# EAGLE library part 10PINJUKE (library Jukebox)
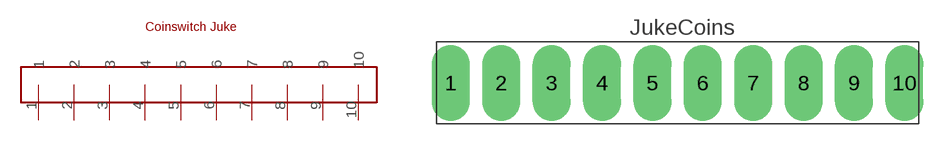
[diagram p2: symbol with the pads of 10PINJUKE; footprint 10PINJUKE]

Designator prefix -

## 10PINJUKE  [10PINJUKE]
1  1
2  2
3  3
4  4
5  5
6  6
7  7
8  8
9  9
10  10

## Footprint 10PINJUKE (pad centres in mm)
drill 1 pad 3 long: 1 -18,0; 2 -14,0; 3 -10,0; 4 -6,0; 5 -2,0; 6 2,0; 7 6,0; 8 10,0; 9 14,0; 10 18,0